# Altium footprint library Calisma2.PcbLib: 27 footprints (part 2 of 2)
Each footprint in its own frame and in the unit in brackets; x right, y up, seen from the top. Pads: shape width x height; smd on the part's side, far side on the other; paste and mask are expansions set on the pad; w line width, h text height; cw(c..) or ccw(c..) is an arc to the next point about the centre after c.
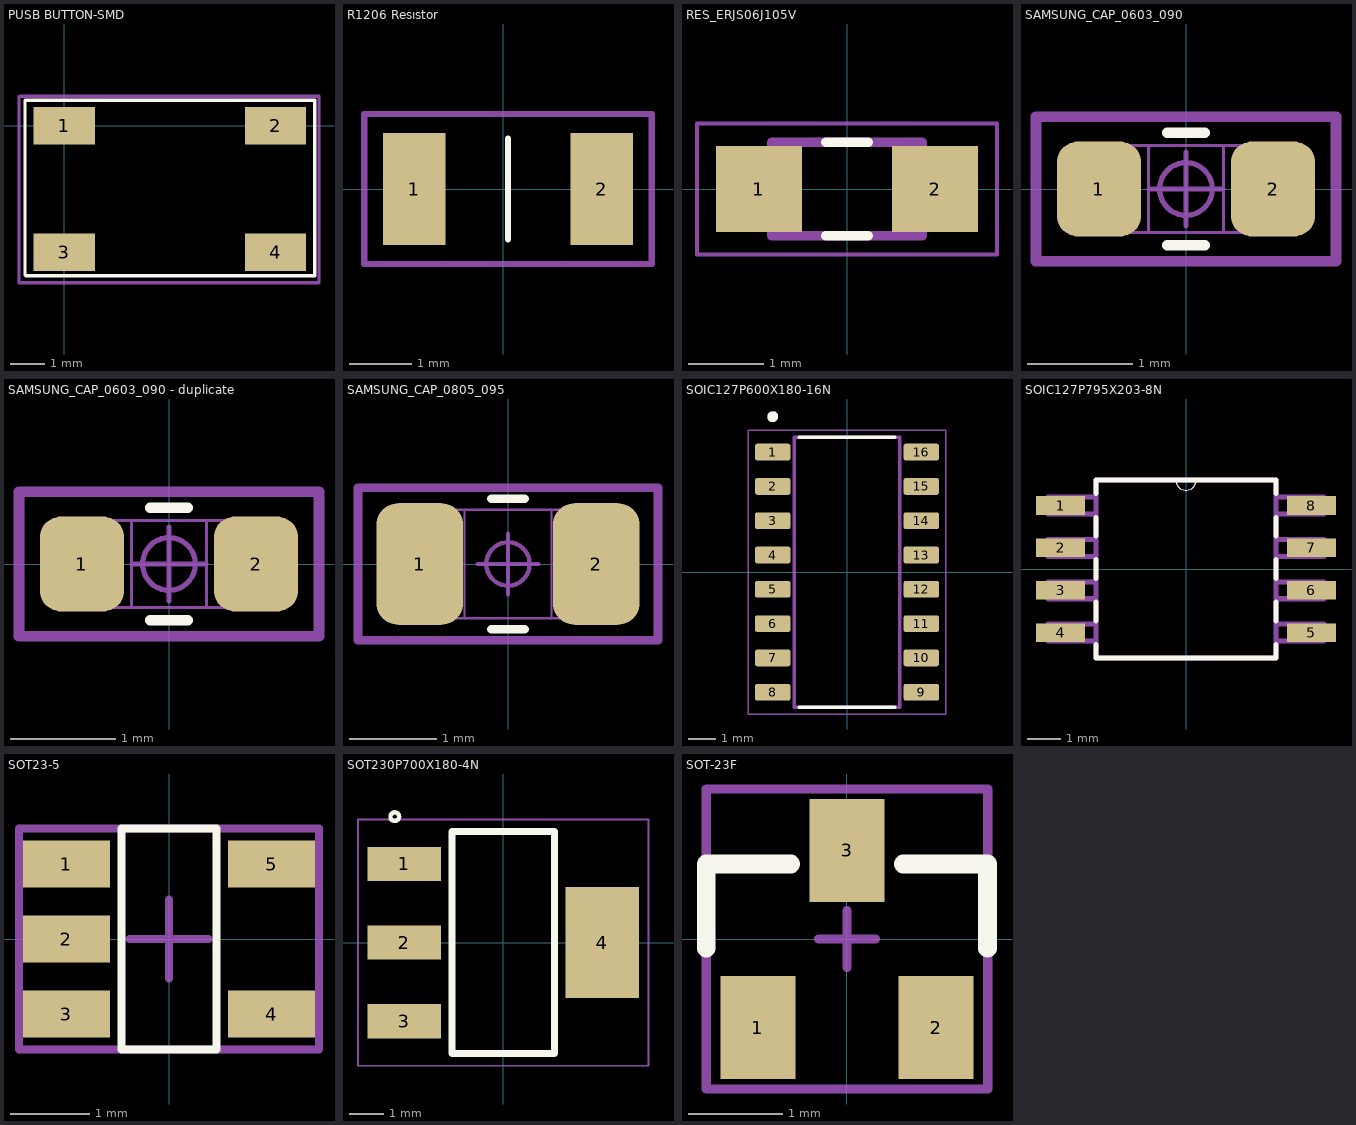
[diagram p1: the footprints below, top view; thin cyan lines are the x and y axes]

## PUSB BUTTON-SMD [mm]
pads (4):
  rect 1.8x1.1 smd mask+0.05: 1(0,0) 2(6.2,0) 3(0,-3.7) 4(6.2,-3.7)
Top Overlay:
  lines w0.1: -1.15,-4.375 -1.15,0.75 7.35,0.75 7.35,-4.4 -1.125,-4.4
Mechanical 3:
  lines w0.1: -1.325,-4.6 7.475,-4.6 7.475,0.875 -1.3,0.875 -1.325,0.85 -1.325,-4.6
3D body "User Library-4x4_SMD_Switch.step": height 1.5, standoff 0, extent -0.2,-4.5 6.2,0.7

## R1206 Resıstor [mm]
pads (2):
  rect 1x1.8 smd mask+0.05: 1(-1.425,0) 2(1.575,0)
Top Overlay:
  lines w0.1: 0.075,-0.805 0.075,0.805
Mechanical 3:
  lines w0.1: -2.225,-1.2 2.375,-1.2 2.375,1.2 -2.225,1.2 -2.225,-1.2
3D body "1206RES.step": height 0.55, standoff 0, extent -1.525,-0.805 1.675,0.805

## RES_ERJS06J105V [mm]
pads (2):
  rect 1.15x1.15 smd: 1(-1.175,0) 2(1.175,0)
Top Overlay:
  lines w0.127: -0.28,-0.625 0.28,-0.625 ; -0.28,0.625 0.28,0.625
Mechanical 13:
  lines w0.127: -1,-0.625 -1,0.625 1,0.625 1,-0.625 -1,-0.625
Mechanical 15:
  lines w0.05: -2,-0.875 -2,0.875 2,0.875 2,-0.875 -2,-0.875
3D body "step_temp.STEP": height 0.6, standoff 0, extent -1,-0.625 1,0.625

## SAMSUNG_CAP_0603_090 [mm]
pads (2):
  rrect50% 0.8x0.9 smd paste+0 mask+0.04: 1(-0.825,0) 2(0.825,0)
Top Overlay:
  lines w0.1: -0.178,-0.533 0.178,-0.533 ; -0.178,0.533 0.178,0.533
Mechanical 13:
  lines w0.025: -0.8,-0.412 0.8,-0.412 ; -0.8,-0.401 -0.8,0.412 0.8,0.412 0.8,-0.401 ; -0.356,-0.406 -0.356,0.406 ; 0.356,-0.406 0.356,0.406
Mechanical 15:
  circle w0.05: c0,0 r0.25
  lines w0.05: -0.35,0 0.35,0 ; 0,-0.35 0,0.35
  lines w0.1: -1.422,-0.686 -1.422,0.686 1.422,0.686 1.422,-0.686 -1.422,-0.686
3D body "CAP 0603.STEP": height 0.81, standoff -0.01, extent -0.8,-0.412 0.8,0.412

## SAMSUNG_CAP_0603_090 - duplicate [mm]
pads (2):
  rrect50% 0.8x0.9 smd paste+0 mask+0.04: 1(-0.825,0) 2(0.825,0)
Top Overlay:
  lines w0.1: -0.178,-0.533 0.178,-0.533 ; -0.178,0.533 0.178,0.533
Mechanical 13:
  lines w0.025: -0.8,-0.412 0.8,-0.412 ; -0.8,-0.401 -0.8,0.412 0.8,0.412 0.8,-0.401 ; -0.356,-0.406 -0.356,0.406 ; 0.356,-0.406 0.356,0.406
Mechanical 15:
  circle w0.05: c0,0 r0.25
  lines w0.05: -0.35,0 0.35,0 ; 0,-0.35 0,0.35
  lines w0.1: -1.422,-0.686 -1.422,0.686 1.422,0.686 1.422,-0.686 -1.422,-0.686
3D body "CAP 0603.STEP": height 0.81, standoff -0.01, extent -0.8,-0.412 0.8,0.412

## SAMSUNG_CAP_0805_095 [mm]
pads (2):
  rrect50% 1x1.4 smd paste+0 mask+0.04: 1(-1.016,0) 2(1.016,0)
Top Overlay:
  lines w0.1: -0.192,-0.752 0.192,-0.752 ; -0.192,0.752 0.192,0.752
Mechanical 13:
  lines w0.025: -1,-0.625 -1,0.625 ; -1,-0.625 -0.5,-0.625 -0.5,0.625 -1,0.625 ; -1,-0.625 1,-0.625 ; -1,-0.625 -1,0.625 ; -1,0.625 1,0.625 ; 1,-0.625 0.5,-0.625 0.5,0.625 1,0.625 ; 1,-0.625 1,0.625 ; 1,-0.625 1,0.625
Mechanical 15:
  circle w0.05: c0,0 r0.25
  lines w0.05: -0.35,0 0.35,0 ; 0,-0.35 0,0.35
  lines w0.1: -1.727,-0.879 -1.727,0.879 1.727,0.879 1.727,-0.879 -1.727,-0.879
3D body "CAP_0805_095.step": height 0.96, standoff -0.01, extent -1,-0.635 1,0.639

## SOIC127P600X180-16N [mm]
pads (16):
  rrect25% 1.31x0.62 smd: 1(-2.75,4.445) 2(-2.75,3.175) 3(-2.75,1.905) 4(-2.75,0.635) 5(-2.75,-0.635) 6(-2.75,-1.905) 7(-2.75,-3.175) 8(-2.75,-4.445) 9(2.75,-4.445) 10(2.75,-3.175) 11(2.75,-1.905) 12(2.75,-0.635) 13(2.75,0.635) 14(2.75,1.905) 15(2.75,3.175) 16(2.75,4.445)
Top Overlay:
  circle w0.2: c-2.75,5.755 r0.1
  lines w0.127: -1.775,-5 1.775,-5 ; -1.775,5 1.775,5
Mechanical 13:
  circle w0.2: c-2.75,5.755 r0.1
  lines w0.127: -1.95,-5 -1.95,5 1.95,5 1.95,-5 -1.95,-5
Mechanical 15:
  lines w0.05: -3.655,-5.25 -3.655,5.25 3.655,5.25 3.655,-5.25 -3.655,-5.25
3D body "step_temp.STEP": height 1.8, standoff 0, extent -3,-5 3,5

## SOIC127P795X203-8N [mil]
pads (8):
  rect 58x22 smd: 1(-148,75) 2(-148,25) 3(-148,-25) 4(-148,-75) 5(148,-75) 6(148,-25) 7(148,25) 8(148,75)
Top Overlay:
  lines w0: -12,105 ccw(c0,105) 12,105
  lines w6: -106,-89 -106,-105 106,-105 106,-89 ; -106,-61 -106,-39 ; -106,-11 -106,11 ; -106,39 -106,61 ; -106,89 -106,105 -12,105 12,105 106,105 106,89 ; 106,-61 106,-39 ; 106,-11 106,11 ; 106,39 106,61
Mechanical 13:
  lines w0: -12,105 ccw(c0,105) 12,105
  lines w6: -163,-85 -163,-65 -106,-65 -106,-85 -163,-85 ; -163,-35 -163,-15 -106,-15 -106,-35 -163,-35 ; -163,15 -163,35 -106,35 -106,15 -163,15 ; -163,65 -163,85 -106,85 -106,65 -163,65 ; -106,-105 106,-105 106,105 12,105 -12,105 -106,105 -106,-105 ; 106,-85 106,-65 163,-65 163,-85 106,-85 ; 106,-35 106,-15 163,-15 163,-35 106,-35 ; 106,15 106,35 163,35 163,15 106,15 ; 106,65 106,85 163,85 163,65 106,65
3D body "step_temp.STEP": height 80, standoff 0, extent -156.5,-102.5 156.5,102.5

## SOT23-5 [mm]
pads (5):
  rect 1.1x0.6 smd mask+0.05: 1(-1.3,0.95) 2(-1.3,0) 3(-1.3,-0.95) 4(1.3,-0.95) 5(1.3,0.95)
Top Overlay:
  lines w0.1: -0.6,-1.4 0.6,-1.4 0.6,1.4 -0.6,1.4 -0.6,-1.4
Top Component Center:
  lines w0.1: -0.5,0 0.5,0 ; 0,-0.5 0,0.5 ; -1.9,-1.4 -1.9,1.4 1.9,1.4 1.9,-1.4 -1.9,-1.4
Top Designator:
  lines w0.1: -1.9,-1.4 1.9,-1.4 1.9,1.4 -1.9,1.4 -1.9,-1.4
  text "'.Designator'" at -1.6,-0.567 h1.3
3D body "OPA314AIDBVR.STEP": height 1.45, standoff 0, extent -1.4,-1.45 1.4,1.45

## SOT230P700X180-4N [mm]
pads (4):
  rect 2.15x1 smd: 1(-2.9,2.3) 2(-2.9,0) 3(-2.9,-2.3)
  rect 2.15x3.25 smd: 4(2.9,0)
Top Overlay:
  circle w0.127: c-3.175,3.683 r0.127
  lines w0.203: -1.5,-3.25 1.5,-3.25 1.5,3.25 -1.5,3.25 -1.5,-3.25
Mechanical 15:
  lines w0.05: -4.25,-3.6 4.25,-3.6 4.25,3.6 -4.25,3.6 -4.25,-3.6
3D body "step_temp.STEP": height 1.8, standoff 0, extent -3.499,-3.25 3.499,3.25

## SOT-23F [mm]
pads (3):
  rect 0.8x1.1 smd mask+0.05: 1(-0.95,-0.945) 2(0.95,-0.945) 3(0,0.945)
Top Overlay:
  lines w0.2: -1.5,-0.1 -1.5,0.8 -0.6,0.8 ; 0.6,0.8 1.5,0.8 1.5,-0.1
Top Component Center:
  lines w0.1: -0.3,0 0.3,0 ; 0,-0.3 0,0.3 ; -1.5,-1.6 1.5,-1.6 1.5,1.6 -1.5,1.6 -1.5,-1.6
Top Designator:
  lines w0.1: -1.5,-1.6 1.5,-1.6 1.5,1.6 -1.5,1.6 -1.5,-1.6
  text "'.Designator'" at -1.2,-0.467 h1
3D body "SOT23-3.stp": height 1.2, standoff 0.02, extent -1.5,-1.418 1.5,1.418